# EAGLE library part BMA250 (library everykey)
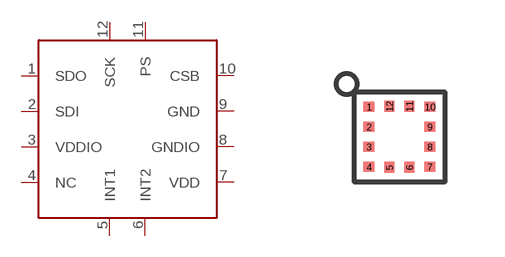
[diagram p10: symbol with the pads of LGA12_MO229_VGGD3; footprint LGA12_MO229_VGGD3]

Designator prefix IC

## BMA250LGA12  [LGA12_MO229_VGGD3]
1  SDO  out
2  SDI  in
3  VDDIO  pwr
4  NC  nc
5  INT1  out
6  INT2  out
7  VDD  pwr
8  GNDIO  pwr
9  GND  pwr
10  CSB  in
11  PS  in
12  SCK  in

## Footprint LGA12_MO229_VGGD3 (pad centres in mm)
smd 0.275 x 0.25: 1 -0.762,0.75; 2 -0.762,0.25; 3 -0.762,-0.25; 4 -0.762,-0.75; 7 0.762,-0.75; 8 0.762,-0.25; 9 0.762,0.25; 10 0.762,0.75
smd 0.25 x 0.275: 5 -0.25,-0.762; 6 0.25,-0.762; 11 0.25,0.762; 12 -0.25,0.762